# Altium schematic symbol library IRF7807.SchLib: 1 symbol
Pins are listed as number, name and electrical type; pins without a type are passive.

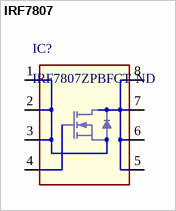
[diagram p0: symbol IRF7807]

## IRF7807
designator IC?, comment IRF7807ZPBFCT-ND
ID: IRF7807ZPBFCT-ND; PRICE: 1.15000; BUY_LINK: http://www.digikey.com/product-detail/en/IRF7807ZTRPBF/IRF7807ZPBFCT-ND/827827; PDF: http://www.irf.com/product-info/datasheets/data/irf7807zpbf.pdf
footprint SO8
pins: 1 S, 2 S, 3 S, 4 G, 5 D, 6 D, 7 D, 8 D